# EAGLE library part SPU0410 (library Audio_Board_Parts)
Knowles Zero-Height SiSonic Microphone
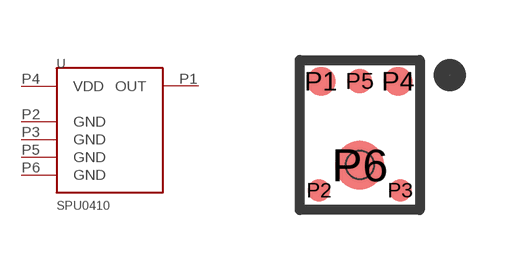
[diagram p0: symbol with the pads of SPU0410LR5H-QB; footprint SPU0410LR5H-QB]

Designator prefix -

## SPU0410LR5H-QB  [SPU0410LR5H-QB]
P1  OUT  out
P2  GND  pwr
P3  GND  pwr
P4  VDD  pwr
P5  GND  pwr
P6  GND  pwr

## Footprint SPU0410LR5H-QB (pad centres in mm)
smd 0.723 x 0.723: P1 -0.966,2.103; P4 0.966,2.103
smd 0.562 x 0.562: P2 -1.015,-0.634; P3 1.015,-0.634
smd 0.612 x 0.612: P5 0,2.103
smd 1.224 x 1.224: P6 0,0
hole 0.7 at 0,0